# Altium schematic symbol library Bosch.SchLib: 3 symbols
Pins are listed as number, name and electrical type; pins without a type are passive.

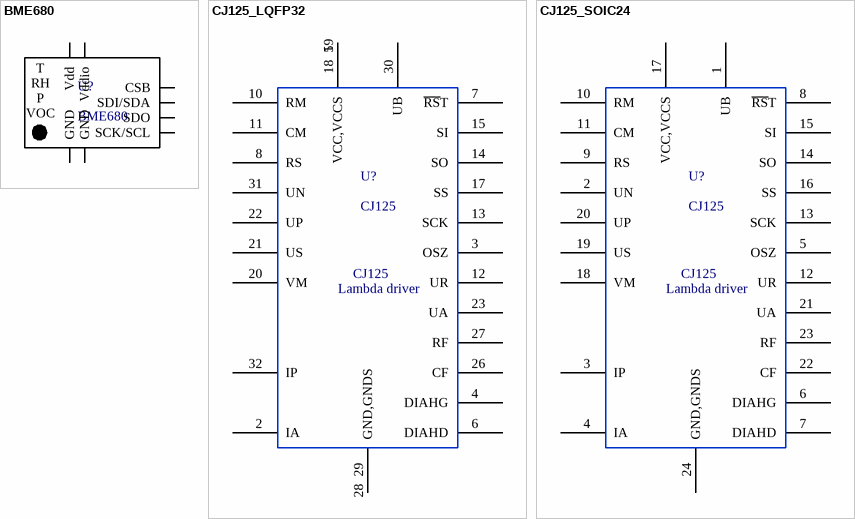
[diagram p0: symbols BME680 to CJ125_SOIC24]

## BME680
designator U?
Temperature, Humidity, VOC and Pressure
footprint BMS680 (Temperature, Humidity, Pressure and VOC sensor)
pins: 1 GND, 2 CSB, 3 SDI/SDA, 4 SCK/SCL, 5 SDO, 6 Vddio, 7 GND, 8 Vdd
text: T / RH / P / VOC /

## CJ125_LQFP32
designator U?, comment CJ125
footprint LQFP32 (7x7mm, 0.8mm pitch)
pins: 2 IA, 3 OSZ, 4 DIAHG, 5, 6 DIAHD, 7 ~{RS}T, 8 RS, 10 RM, 11 CM, 12 UR, 13 SCK, 14 SO, 15 SI, 17 SS, 18 VCC,VCCS, 19, 20 VM, 21 US, 22 UP, 23 UA, 26 CF, 27 RF, 28, 29 GND,GNDS, 30 UB, 31 UN, 32 IP
text: Lambda driver

## CJ125_SOIC24
designator U?, comment CJ125
footprint SOIC24
pins: 1 UB, 2 UN, 3 IP, 4 IA, 5 OSZ, 6 DIAHG, 7 DIAHD, 8 ~{RS}T, 9 RS, 10 RM, 11 CM, 12 UR, 13 SCK, 14 SO, 15 SI, 16 SS, 17 VCC,VCCS, 18 VM, 19 US, 20 UP, 21 UA, 22 CF, 23 RF, 24 GND,GNDS
text: Lambda driver